# Altium footprint library AAH_comm_lib.PcbLib: 19 footprints (part 1 of 2)
Each footprint in its own frame and in the unit in brackets; x right, y up, seen from the top. Pads: shape width x height; smd on the part's side, far side on the other; paste and mask are expansions set on the pad; w line width, h text height; cw(c..) or ccw(c..) is an arc to the next point about the centre after c.
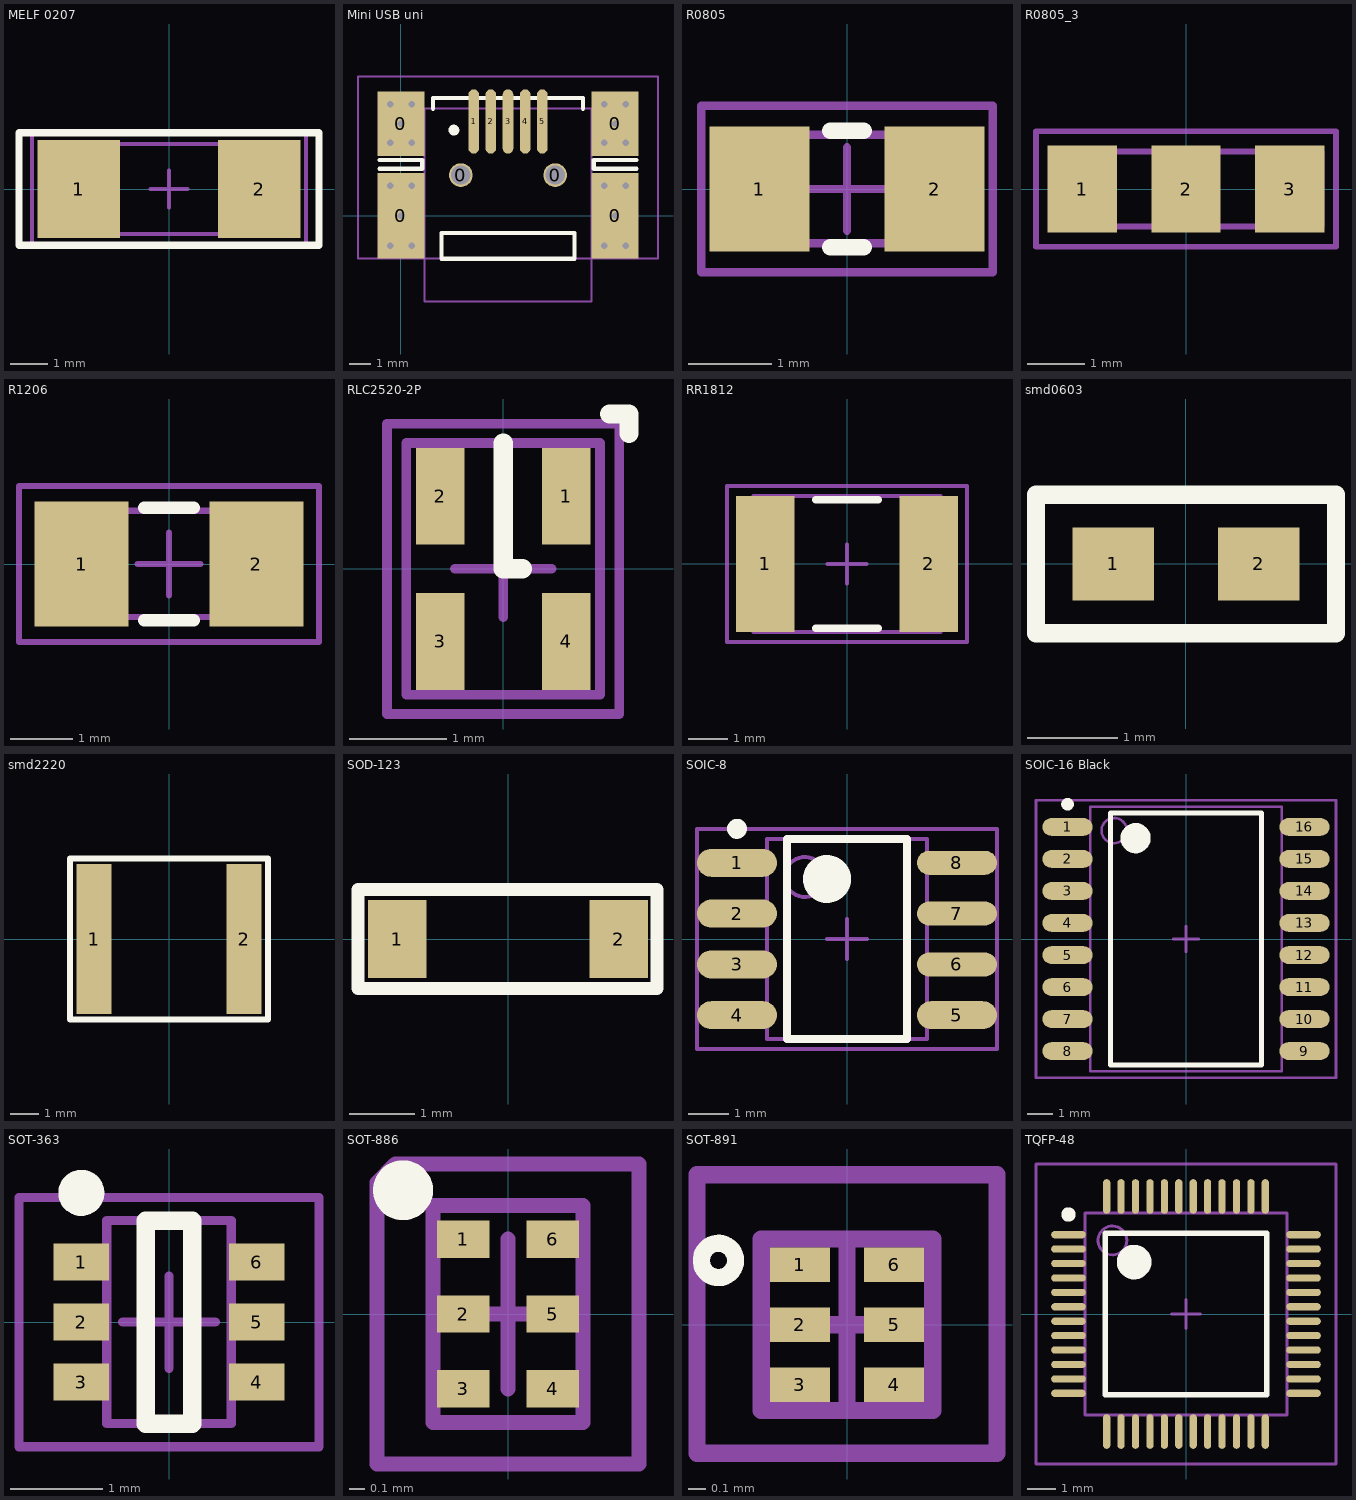
[diagram p0: the footprints below, top view; thin cyan lines are the x and y axes]

## MELF 0207 [mm] "MELF Resistor, 2-Leads, Body 5,8x2,2mm, IPC Medium Density"
height 2.4
pads (2):
  rect 2.2x2.6 smd: 1(-2.4,0) 2(2.4,0)
Top Overlay:
  lines w0.2: -4,-1.5 4,-1.5 4,1.5 -4,1.5 -4,-1.5
Mechanical 13:
  lines w0.1: -2.975,-1.2 -2.975,1.2 2.975,1.2 2.975,-1.2 -2.975,-1.2
Mechanical 15:
  lines w0.1: -0.5,0 0.5,0 ; 0,-0.5 0,0.5 ; -3.65,-1.55 -3.65,1.55 3.65,1.55 3.65,-1.55 -3.65,-1.55
3D body: height 2.4, standoff 0, extent -2,-1.2 2,1.2
3D body: height 2.4, standoff 0, extent -3,-1.2 -2,1.2
3D body: height 2.4, standoff 0, extent 2,-1.2 3,1.2

## Mini USB uni [mm] "Surface maybe universal"
height 4
pads (11):
  rect 2.2x4 smd: 0(0,0) 0(10,0)
  rect 2.2x3 smd: 0(0,4.3) 0(10,4.3)
  round 1.1 hole 0.9 mask+0: 0(2.8,1.9) 0(7.2,1.9)
  oval 0.5x3 smd: 1(3.4,4.4) 2(4.2,4.4) 3(5,4.4) 4(5.8,4.4) 5(6.6,4.4)
via 0,4.3 diameter 0.8 hole 0.3
via 0.5,3.4 diameter 0.8 hole 0.3
via -0.5,3.4 diameter 0.8 hole 0.3
via 0.5,5.2 diameter 0.8 hole 0.3
via -0.5,5.2 diameter 0.8 hole 0.3
via 9.5,5.2 diameter 0.8 hole 0.3
via 10,4.3 diameter 0.8 hole 0.3
via 10.5,5.2 diameter 0.8 hole 0.3
via 9.5,3.4 diameter 0.8 hole 0.3
via 10.5,3.4 diameter 0.8 hole 0.3
via -0.5,1.4 diameter 0.8 hole 0.3
via 0.5,1.4 diameter 0.8 hole 0.3
via 0,0 diameter 0.8 hole 0.3
via -0.5,-1.4 diameter 0.8 hole 0.3
via 0.5,-1.4 diameter 0.8 hole 0.3
via 10.5,-1.4 diameter 0.8 hole 0.3
via 9.5,-1.4 diameter 0.8 hole 0.3
via 10,0 diameter 0.8 hole 0.3
via 10.5,1.4 diameter 0.8 hole 0.3
via 9.5,1.4 diameter 0.8 hole 0.3
Top Overlay:
  circle w0.25: c2.475,4 r0.125
  lines w0.2: -1,2.2 1,2.2 1,2.6 -1,2.6 ; 1.5,5 1.5,5.5 8.5,5.5 8.5,5 ; 8.057,-0.8 1.9,-0.8 1.9,-2 8.1,-2 8.1,-0.8 ; 11,2.2 9,2.2 9,2.6 11,2.6
Mechanical 13:
  lines w0.1: 1.1,-4 1.1,5 8.9,5 8.9,-4 1.1,-4
Mechanical 15:
  lines w0.1: -0.5,0 0.5,0 ; -0.5,4.4 0.5,4.4 ; 0,-0.5 0,0.5 ; 0,3.9 0,4.9 ; -2,-2 -2,6.5 12,6.5 12,-2 -2,-2
3D body: height 4, standoff 0.1, extent 1.1,-4 8.9,5
3D body: height 0.5, standoff 0.1, extent 0,3.5 10,5
3D body: height 0.5, standoff 0.1, extent 0,-1 10,1

## R0805 [mm] "Chip Resistor, 2-Leads, Body 2,0x1,2mm, IPC Medium Density"
height 1
pads (2):
  rect 1.2x1.5 smd: 1(-1.05,0) 2(1.05,0)
Top Overlay:
  lines w0.2: -0.2,-0.7 0.2,-0.7 ; -0.2,0.7 0.2,0.7
Mechanical 13:
  lines w0.1: -1.05,-0.65 1.05,-0.65 1.05,0.65 -1.05,0.65 -1.05,-0.65
Mechanical 15:
  lines w0.1: -0.5,0 0.5,0 ; 0,-0.5 0,0.5 ; -1.75,-1 1.75,-1 1.75,1 -1.75,1 -1.75,-1
3D body: height 1, standoff 0, extent -1.05,-0.65 1.05,0.65

## R0805_3 [mm] "Chip Resistor, 3-Leads, Body 2,0x1,2mm, IPC Medium Density"
height 1
pads (3):
  rect 1.2x1.5 smd: 1(-1.8,0) 2(0,0) 3(1.8,0)
Mechanical 13:
  lines w0.1: -2.25,-0.65 -0.15,-0.65 -0.15,0.65 -2.25,0.65 -2.25,-0.65 ; 0.25,-0.65 2.35,-0.65 2.35,0.65 0.25,0.65 0.25,-0.65
Mechanical 15:
  lines w0.1: -0.5,0 0.5,0 ; 0,-0.5 0,0.5 ; -2.6,-1 2.6,-1 2.6,1 -2.6,1 -2.6,-1
3D body: height 1, standoff 0, extent 0.25,-0.65 2.35,0.65
3D body: height 1, standoff 0, extent -2.25,-0.65 -0.15,0.65

## R1206 [mm] "Chip Resistor, 2-Leads, Body 3,2x1,6mm, IPC Medium Density"
height 1.5
pads (2):
  rect 1.5x2 smd: 1(-1.4,0) 2(1.4,0)
Top Overlay:
  lines w0.2: -0.4,-0.9 0.4,-0.9 ; -0.4,0.9 0.4,0.9
Mechanical 13:
  lines w0.1: -1.65,-0.85 -1.65,0.85 1.65,0.85 1.65,-0.85 -1.65,-0.85
Mechanical 15:
  lines w0.1: -0.5,0 0.5,0 ; 0,-0.5 0,0.5 ; -2.4,-1.25 -2.4,1.25 2.4,1.25 2.4,-1.25 -2.4,-1.25
3D body: height 1.5, standoff 0, extent -1.65,-0.85 1.65,0.85

## RLC2520-2P [mm] "For SMD Inductros"
height 1.5
pads (4):
  rect 0.5x1 smd mask+0.1: 1(0.65,0.75) 2(-0.65,0.75) 3(-0.65,-0.75) 4(0.65,-0.75)
Top Overlay:
  lines w0.2: 0,1.3 0,0 0.2,0 ; 1.1,1.6 1.3,1.6 1.3,1.4
Mechanical 13:
  lines w0.1: -1,-1.3 1,-1.3 1,1.3 -1,1.3 -1,-1.3
Mechanical 15:
  lines w0.1: -0.5,0 0.5,0 ; 0,-0.5 0,0.5 ; -1.2,-1.5 1.2,-1.5 1.2,1.5 -1.2,1.5 -1.2,-1.5
3D body: height 0.7, standoff 0, extent -1,-1.3 1,1.3

## RR1812 [mm] "Resettable fuse"
height 0.8
pads (2):
  rect 1.5x3.5 smd: 1(-2.1,0) 2(2.1,0)
Top Overlay:
  lines w0.2: -0.8,-1.65 0.8,-1.65 ; -0.8,1.65 0.8,1.65
Mechanical 13:
  lines w0.1: -2.4,-1.75 2.4,-1.75 2.4,1.75 -2.4,1.75 -2.4,-1.75
Mechanical 15:
  lines w0.1: -0.5,0 0.5,0 ; 0,-0.5 0,0.5 ; -3.075,-2 3.075,-2 3.075,2 -3.075,2 -3.075,-2
3D body: height 0.8, standoff 0, extent -2.4,-1.75 2.4,1.75

## smd0603 [mm]
pads (2):
  rect 0.9x0.8 smd: 1(-0.8,0) 2(0.8,0)
Top Overlay:
  lines w0.2: -1.651,-0.762 -1.651,0.762 1.651,0.762 1.651,0.508 1.651,-0.254 1.651,-0.762 -1.651,-0.762

## smd2220 [mm]
pads (2):
  rect 1.2x5.2 smd: 1(-2.6,0) 2(2.6,0)
Top Overlay:
  lines w0.2: -3.429,-2.794 -3.429,-0.329 -3.429,2.794 3.429,2.794 3.429,-2.794 -3.429,-2.794

## SOD-123 [mm]
pads (2):
  rect 0.9x1.2 smd: 1(-1.7,0) 2(1.7,0)
Top Overlay:
  lines w0.2: 2.068,-0.762 2.245,-0.762 0.059,-0.762 -2.304,-0.762 -2.304,0.762 2.286,0.762 2.286,-0.762

## SOIC-8 [mm] "SOIC, 8-Leads, Body 5,0x4,0mm (max), Pitch 1,27mm, IPC Medium Density"
height 1.75
pads (8):
  oval 2x0.7 smd: 1(-2.75,1.905) 2(-2.75,0.635) 3(-2.75,-0.635) 4(-2.75,-1.905) 5(2.75,-1.905)
  oval 2x0.6 smd: 6(2.75,-0.635) 7(2.75,0.635) 8(2.75,1.905)
Top Overlay:
  circle w0.25: c-2.75,2.755 r0.125
  circle w0.6: c-0.5,1.5 r0.3
  lines w0.2: -1.5,-2.5 -1.5,2.5 1.5,2.5 1.5,-2.5 -1.5,-2.5
Mechanical 13:
  circle w0.1: c-1.05,1.55 r0.5
  lines w0.1: -2,-2.5 -2,2.5 2,2.5 2,-2.5 -2,-2.5
Mechanical 15:
  lines w0.1: -0.5,0 0.5,0 ; 0,-0.5 0,0.5 ; -3.75,-2.75 -3.75,2.75 3.75,2.75 3.75,-2.75 -3.75,-2.75
3D body: height 1.75, standoff 0.2, extent -2,-2.5 2,2.5

## SOIC-16 Black [mm]
height 2.65
pads (16):
  oval 2x0.7 smd: 1(-4.7,4.445) 2(-4.7,3.175) 3(-4.7,1.905) 4(-4.7,0.635) 5(-4.7,-0.635) 6(-4.7,-1.905) 7(-4.7,-3.175) 8(-4.7,-4.445) 9(4.7,-4.445) 10(4.7,-3.175) 11(4.7,-1.905) 12(4.7,-0.635) 13(4.7,0.635) 14(4.7,1.905) 15(4.7,3.175) 16(4.7,4.445)
Top Overlay:
  circle w0.6: c-2,4 r0.3
  circle w0.25: c-4.7,5.345 r0.125
  lines w0.2: -3,-5 3,-5 3,5 -3,5 -3,-5
Mechanical 13:
  circle w0.1: c-2.85,4.3 r0.5
  lines w0.1: -3.8,-5.25 3.8,-5.25 3.8,5.25 -3.8,5.25 -3.8,-5.25
Mechanical 15:
  lines w0.1: -0.5,0 0.5,0 ; 0,-0.5 0,0.5 ; -5.95,-5.5 5.95,-5.5 5.95,5.5 -5.95,5.5 -5.95,-5.5
3D body: height 2.65, standoff 0.1, extent -3.8,-5.25 3.8,5.25

## SOT-363 [mm] "For small TVS"
height 1.2
pads (6):
  rect 0.6x0.4 smd: 1(-0.95,0.65) 2(-0.95,0) 3(-0.95,-0.65) 4(0.95,-0.65) 5(0.95,0) 6(0.95,0.65)
Top Overlay:
  circle w0.25: c-0.95,1.4 r0.125
  lines w0.2: -0.25,-1.1 -0.25,1.1 0.25,1.1 0.25,-1.1 -0.25,-1.1
Mechanical 13:
  lines w0.1: -0.675,-1.1 0.675,-1.1 0.675,1.1 -0.675,1.1 -0.675,-1.1
Mechanical 15:
  lines w0.1: -0.5,0 0.5,0 ; 0,-0.5 0,0.5 ; -1.625,-1.35 1.625,-1.35 1.625,1.35 -1.625,1.35 -1.625,-1.35
3D body: height 1.2, standoff 0.1, extent -0.675,-1.1 0.675,1.1

## SOT-886 [mm] "LCC, 6-Pins, Body 1,0x1,5mm (max), Pitch 0,50mm, IPC Medium Density"
height 0.4
pads (6):
  rect 0.35x0.25 smd mask+0.05: 1(-0.3,0.5) 2(-0.3,0) 3(-0.3,-0.5) 4(0.3,-0.5) 5(0.3,0) 6(0.3,0.5)
Top Overlay:
  circle w0.2: c-0.7,0.825 r0.1
Mechanical 13:
  lines w0.1: -0.5,-0.725 -0.5,0.725 0.5,0.725 0.5,-0.725 -0.5,-0.725
Mechanical 15:
  lines w0.1: -0.5,0 0.5,0 ; 0,-0.5 0,0.5 ; -0.875,-1 0.875,-1 0.875,1 -0.75,1 -0.875,0.875 -0.875,-1
3D body: height 0.4, standoff 0, extent -0.5,-0.725 0.5,0.725

## SOT-891 [mm]
height 0.5
pads (6):
  rect 0.35x0.2 smd mask+0.05: 1(-0.275,0.35) 2(-0.275,0) 3(-0.275,-0.35) 4(0.275,-0.35) 5(0.275,0) 6(0.275,0.35)
Top Overlay:
  circle w0.1: c-0.75,0.375 r0.1
Mechanical 13:
  lines w0.1: -0.5,-0.5 -0.5,0.5 0.5,0.5 0.5,-0.5 -0.5,-0.5
Mechanical 15:
  lines w0.1: -0.5,0 0.5,0 ; 0,-0.5 0,0.5 ; -0.875,-0.75 -0.875,0.875 0.875,0.875 0.875,-0.75 -0.875,-0.75
3D body: height 0.5, standoff 0, extent -0.5,-0.5 0.5,0.5

## TQFP-48 [mm] "TSQFP, 48-Leads, Body 9,2x9,2mm (max), Pitch 0,50mm, IPC Medium Density"
height 1.05
pads (48):
  oval 1.2x0.25 smd: 1(-4.075,2.75) 2(-4.075,2.25) 3(-4.075,1.75) 4(-4.075,1.25) 5(-4.075,0.75) 6(-4.075,0.25) 7(-4.075,-0.25) 8(-4.075,-0.75) 9(-4.075,-1.25) 10(-4.075,-1.75) 11(-4.075,-2.25) 12(-4.075,-2.75) 25(4.075,-2.75) 26(4.075,-2.25) 27(4.075,-1.75) 28(4.075,-1.25) 29(4.075,-0.75) 30(4.075,-0.25) 31(4.075,0.25) 32(4.075,0.75) 33(4.075,1.25) 34(4.075,1.75) 35(4.075,2.25) 36(4.075,2.75)
  oval 0.25x1.2 smd: 13(-2.75,-4.075) 14(-2.25,-4.075) 15(-1.75,-4.075) 16(-1.25,-4.075) 17(-0.75,-4.075) 18(-0.25,-4.075) 19(0.25,-4.075) 20(0.75,-4.075) 21(1.25,-4.075) 22(1.75,-4.075) 23(2.25,-4.075) 24(2.75,-4.075) 37(2.75,4.075) 38(2.25,4.075) 39(1.75,4.075) 40(1.25,4.075) 41(0.75,4.075) 42(0.25,4.075) 43(-0.25,4.075) 44(-0.75,4.075) 45(-1.25,4.075) 46(-1.75,4.075) 47(-2.25,4.075) 48(-2.75,4.075)
Top Overlay:
  circle w0.25: c-4.075,3.45 r0.125
  circle w0.6: c-1.8,1.8 r0.3
  lines w0.2: -2.8,-2.8 -2.8,2.8 2.8,2.8 2.8,-2.8 -2.8,-2.8
Mechanical 13:
  circle w0.1: c-2.55,2.55 r0.5
  lines w0.1: -3.5,-3.5 -3.5,3.5 3.5,3.5 3.5,-3.5 -3.5,-3.5
Mechanical 15:
  lines w0.1: -0.5,0 0.5,0 ; 0,-0.5 0,0.5 ; -5.2,-5.2 -5.2,5.2 5.2,5.2 5.2,-5.2 -5.2,-5.2
3D body: height 1.05, standoff 0.15, extent -3.5,-3.5 3.5,3.5